# Altium footprint library Crys_Epson_FA-20H_16_0000MF12V-AJ3_eec_MFG.PcbLib: 1 footprints
Each footprint in its own frame and in the unit in brackets; x right, y up, seen from the top. Pads: shape width x height; smd on the part's side, far side on the other; paste and mask are expansions set on the pad; w line width, h text height; cw(c..) or ccw(c..) is an arc to the next point about the centre after c.
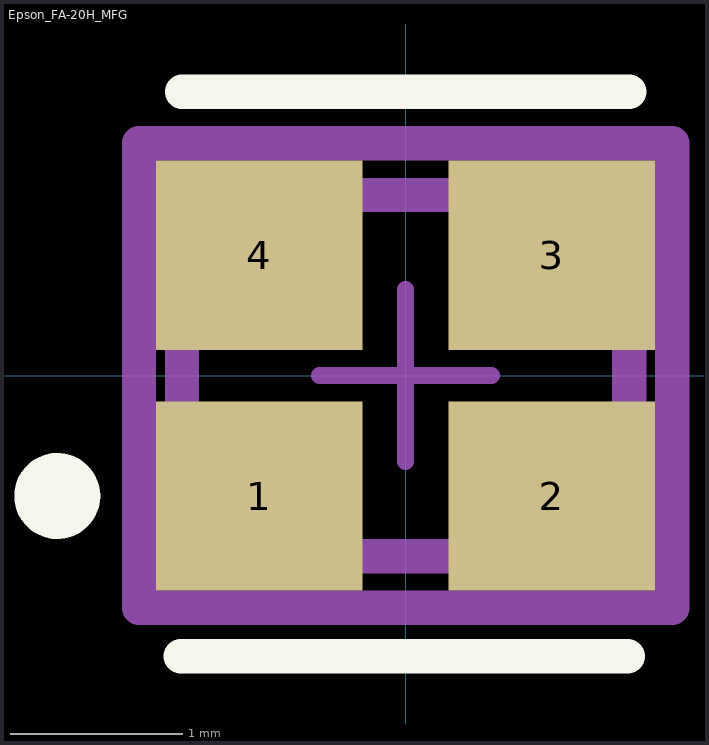
[diagram p0: the footprint, top view; thin cyan lines are the x and y axes]

## Epson_FA-20H_MFG [mm]
pads (4):
  rect 1.2x1.1 smd paste+0 mask+0: 1(-0.85,-0.7) 2(0.85,-0.7) 3(0.85,0.7) 4(-0.85,0.7)
Top Overlay:
  circle w0.25: c-2.025,-0.7 r0.125
  lines w0.2: -1.308,-1.631 1.292,-1.631 ; -1.3,1.65 1.3,1.65
Mechanical 10:
  lines w0.2: -1.55,-1.35 1.55,-1.35 1.55,1.35 -1.55,1.35 -1.55,-1.35
  text ".Designator" at 0,0.188 h1
Mechanical 12:
  lines w0.2: -1.3,-1.05 1.3,-1.05 1.3,1.05 -1.3,1.05 -1.3,-1.05
Mechanical 15:
  lines w0.1: -0.5,0 0.5,0 ; 0,-0.5 0,0.5
  lines w0.2: -1.55,-1.35 1.55,-1.35 1.55,1.35 -1.55,1.35 -1.55,-1.35
3D body "Crys_Epson_FA-20H_16_0000MF12V-AJ3_eec.STEP": height 0.25, standoff 0, extent -1.55,-1.35 1.55,1.35